# EAGLE library part TERMINAL-8 (library sapphire)
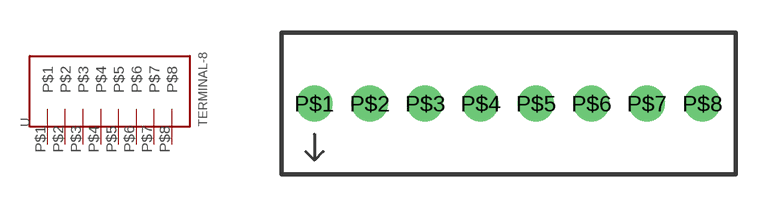
[diagram p18: symbol with the pads of TERMINAL-8; footprint TERMINAL-8]

Designator prefix -

## TERMINAL-8  [TERMINAL-8]
P$1  P$1
P$2  P$2
P$3  P$3
P$4  P$4
P$5  P$5
P$6  P$6
P$7  P$7
P$8  P$8

## Footprint TERMINAL-8 (pad centres in mm)
drill 1.1: P$1 -8.89,0; P$2 -6.35,0; P$3 -3.81,0; P$4 -1.27,0; P$5 1.27,0; P$6 3.81,0; P$7 6.35,0; P$8 8.89,0